# EAGLE library part 649008221732 (library Wurth_Elektronik_Electromechanic_Wire_to_Board_Connectors_rev16a)
WR-MPC4 4.20mm Male Dual Row Vertical Header with Mounting Pegs, 8 Pins=>Code : Con_WTB_MPC4_2_PCB_649008221732 <http://katalog.we-online.de/media/thumbs2/eican/thb_Con_WTB_MPC4_2_PCB_6490xx221732_pf2.jpg> Details see: http://katalog.we-online.de/en/em/649_0xx_221_732 Created 2014-06-06, Karrer Zheng 2014 (C) Würth Elektronik
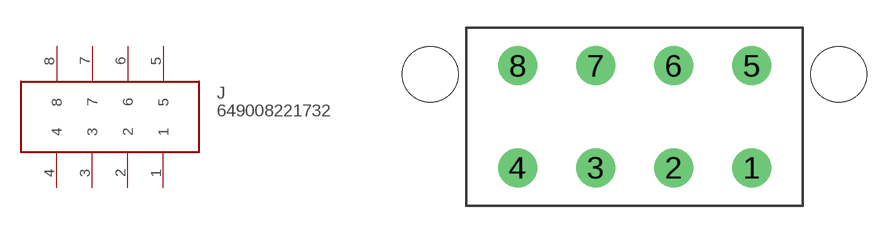
[diagram p282: symbol with the pads of 649008221732; footprint 649008221732]

Designator prefix J

## 649008221732  [649008221732]
1  1
2  2
3  3
4  4
5  5
6  6
7  7
8  8

## Footprint 649008221732 (pad centres in mm)
WR-MPC4 4.20mm Male Dual Row Vertical Header with Mounting Pegs, 8 Pins
drill 1.4: 1 6.3,-2.75; 2 2.1,-2.75; 3 -2.1,-2.75; 4 -6.3,-2.75; 5 6.3,2.75; 6 2.1,2.75; 7 -2.1,2.75; 8 -6.3,2.75
hole 3 at -11,2.29
hole 3 at 11,2.29